# EAGLE library part TLC5940 (library TLC5940)
16 CHANNEL LED DRIVER WITH DOT CORRECTION AND GRAYSCALE PWM CONTROL
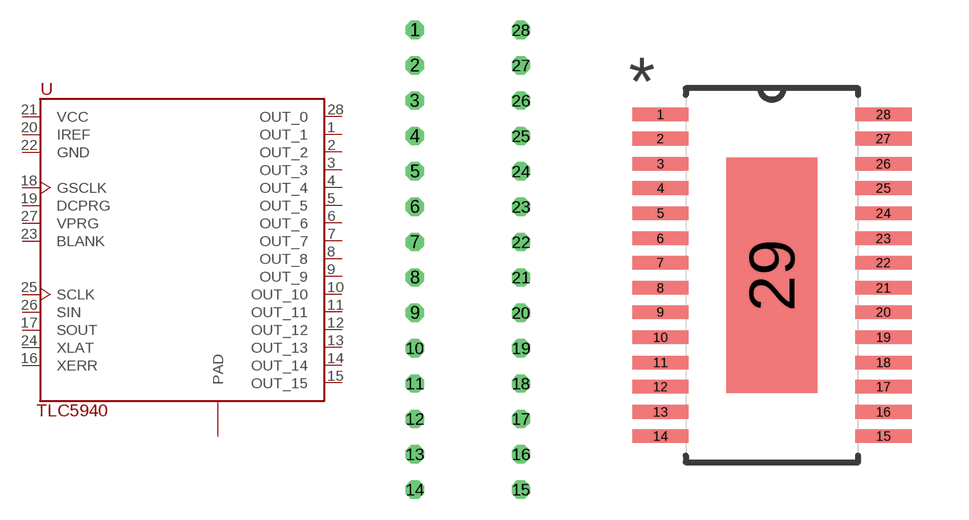
[diagram p0: symbol with the pads of DIP-28; footprints DIP-28, SOP65P640X120-29N]

Designator prefix -

## TLC5940NT (MPN: TLC5940NT; PACKAGE: DIP-28; SUPPLIER: Texas Instruments)  [DIP-28]
1  OUT_1  out
2  OUT_2  out
3  OUT_3  out
4  OUT_4  out
5  OUT_5  out
6  OUT_6  out
7  OUT_7  out
8  OUT_8  out
9  OUT_9  out
10  OUT_10  out
11  OUT_11  out
12  OUT_12  out
13  OUT_13  out
14  OUT_14  out
15  OUT_15  out
16  XERR  out
17  SOUT  out
18  GSCLK  in
19  DCPRG  in
20  IREF  pwr
21  VCC  pwr
22  GND  pwr
23  BLANK  in
24  XLAT  in
25  SCLK  in
26  SIN  in
27  VPRG  in
28  OUT_0  out

## TLC5940PWP (MPN: TLC5940PWP; PACKAGE: HTSSOP-28; SUPPLIER: Texas Instruments)  [SOP65P640X120-29N]
1  GND  pwr
2  BLANK  in
3  XLAT  in
4  SCLK  in
5  SIN  in
6  VPRG  in
7  OUT_0  out
8  OUT_1  out
9  OUT_2  out
10  OUT_3  out
11  OUT_4  out
12  OUT_5  out
13  OUT_6  out
14  OUT_7  out
15  OUT_8  out
16  OUT_9  out
17  OUT_10  out
18  OUT_11  out
19  OUT_12  out
20  OUT_13  out
21  OUT_14  out
22  OUT_15  out
23  XERR  out
24  SOUT  out
25  GSCLK  in
26  DCPRG  in
27  IREF  pwr
28  VCC  pwr
29  PAD  pas

## Footprint DIP-28 (pad centres in mm)
drill 0.8 octagon: 1 -3.81,-1.27; 2 -3.81,-3.81; 3 -3.81,-6.35; 4 -3.81,-8.89; 5 -3.81,-11.43; 6 -3.81,-13.97; 7 -3.81,-16.51; 8 -3.81,-19.05; 9 -3.81,-21.59; 10 -3.81,-24.13; 11 -3.81,-26.67; 12 -3.81,-29.21; 13 -3.81,-31.75; 14 -3.81,-34.29; 15 3.81,-34.29; 16 3.81,-31.75; 17 3.81,-29.21; 18 3.81,-26.67; 19 3.81,-24.13; 20 3.81,-21.59; 21 3.81,-19.05; 22 3.81,-16.51; 23 3.81,-13.97; 24 3.81,-11.43; 25 3.81,-8.89; 26 3.81,-6.35; 27 3.81,-3.81; 28 3.81,-1.27

## Footprint SOP65P640X120-29N (pad centres in mm)
smd 1.473 x 0.356: 1 -2.921,4.216; 2 -2.921,3.581; 3 -2.921,2.921; 4 -2.921,2.286; 5 -2.921,1.626; 6 -2.921,0.965; 7 -2.921,0.33; 8 -2.921,-0.33; 9 -2.921,-0.965; 10 -2.921,-1.626; 11 -2.921,-2.286; 12 -2.921,-2.921; 13 -2.921,-3.581; 14 -2.921,-4.216; 15 2.921,-4.216; 16 2.921,-3.581; 17 2.921,-2.921; 18 2.921,-2.286; 19 2.921,-1.626; 20 2.921,-0.965; 21 2.921,-0.33; 22 2.921,0.33; 23 2.921,0.965; 24 2.921,1.626; 25 2.921,2.286; 26 2.921,2.921; 27 2.921,3.581; 28 2.921,4.216
smd 2.388 x 6.172: 29 0,0